# Altium schematic symbol library SRR0735HA-151M.SchLib: 1 symbol
Pins are listed as number, name and electrical type; pins without a type are passive.

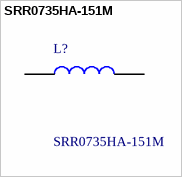
[diagram p0: symbol SRR0735HA-151M]

## SRR0735HA-151M
designator L?
Ind,7.3x7.3x3.5,150uH+/-20%,0.47A,shd; Manufacturer_Name: Bourns; Geometry.Height: 3.7mm; Mouser Part Number: 652-SRR0735HA-151M; Mouser Price/Stock: https://www.mouser.co.uk/ProductDetail/Bourns/SRR0735HA-151M?qs=mELouGlnn3dWb%2Fm7RDXtBg%3D%3D; Manufacturer_Part_Number: SRR0735HA-151M; Datasheet Link: https://www.bourns.com/docs/Product-Datasheets/SRR0735HA.pdf
footprint SRR0735HA151M
pins: 1, 2